# EAGLE library part CONN-KF2EDG-10(5.08) (library Stuff_I_Use)
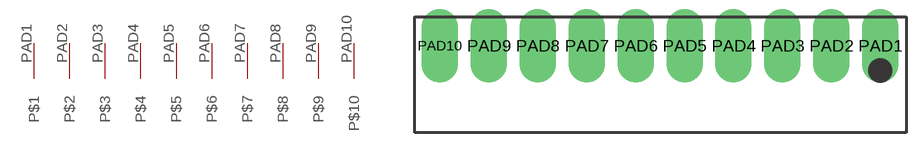
[diagram p0: symbol with the pads of CONN-KF2EDG-10(5.08); footprint CONN-KF2EDG-10(5.08)]

Designator prefix -

## CONN-KF2EDG-10(5.08)E-BAYPLUGGABLECONNECTORS  [CONN-KF2EDG-10(5.08)]
PAD1  P$1
PAD2  P$2
PAD3  P$3
PAD4  P$4
PAD5  P$5
PAD6  P$6
PAD7  P$7
PAD8  P$8
PAD9  P$9
PAD10  P$10

## Footprint CONN-KF2EDG-10(5.08) (pad centres in mm)
Pad wth 1.6 mm Hole
drill 1.6 pad 3.81 long: PAD1 23.32,3; PAD2 18.24,3; PAD3 13.16,3; PAD4 8.08,3; PAD5 3,3; PAD6 -2.08,3; PAD7 -7.16,3; PAD8 -12.24,3; PAD9 -17.32,3; PAD10 -22.4,3